# Altium footprint library TPS23751PWPR.PcbLib: 1 footprints
Each footprint in its own frame and in the unit in brackets; x right, y up, seen from the top. Pads: shape width x height; smd on the part's side, far side on the other; paste and mask are expansions set on the pad; w line width, h text height; cw(c..) or ccw(c..) is an arc to the next point about the centre after c.
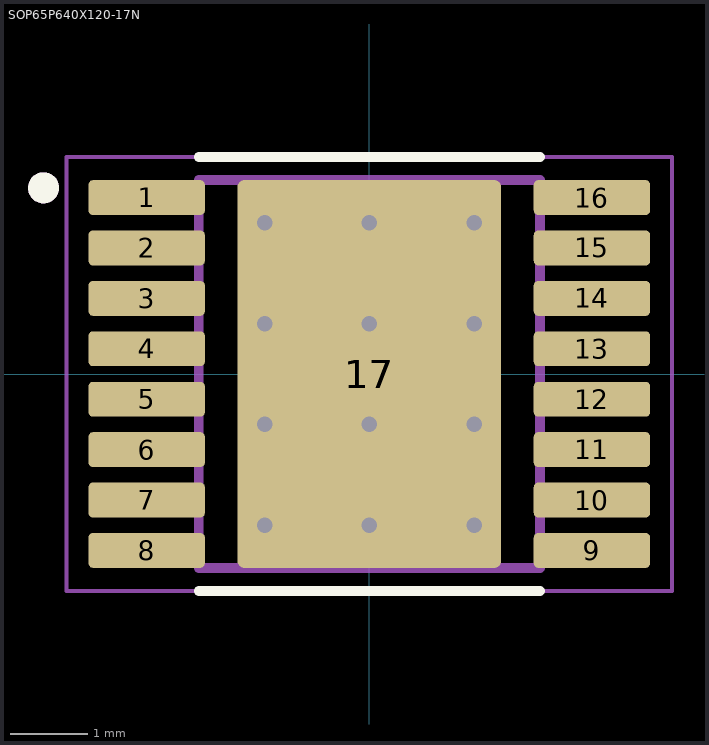
[diagram p0: the footprint, top view; thin cyan lines are the x and y axes]

## SOP65P640X120-17N [mm]
pads (18):
  rrect25% 1.5x0.45 smd mask+0.05: 1(-2.87,2.275) 2(-2.87,1.625) 3(-2.87,0.975) 4(-2.87,0.325) 5(-2.87,-0.325) 6(-2.87,-0.975) 7(-2.87,-1.625) 8(-2.87,-2.275) 9(2.87,-2.275) 10(2.87,-1.625) 11(2.87,-0.975) 12(2.87,-0.325) 13(2.87,0.325) 14(2.87,0.975) 15(2.87,1.625) 16(2.87,2.275)
  rrect5% 3.4x5 smd mask+0.102: 17(0,0)
  rrect5% 2.46x3.55 on Top Solder: 17(0,0)
via -1.35,1.95 diameter 0.3 hole 0.2
via 1.35,1.95 diameter 0.3 hole 0.2
via 0,0.65 diameter 0.3 hole 0.2
via 0,-1.95 diameter 0.3 hole 0.2
via 0,-0.65 diameter 0.3 hole 0.2
via 0,1.95 diameter 0.3 hole 0.2
via 1.35,0.65 diameter 0.3 hole 0.2
via 1.35,-0.65 diameter 0.3 hole 0.2
via 1.35,-1.95 diameter 0.3 hole 0.2
via -1.35,0.65 diameter 0.3 hole 0.2
via -1.35,-0.65 diameter 0.3 hole 0.2
via -1.35,-1.95 diameter 0.3 hole 0.2
Top Overlay:
  circle w0.2: c-4.2,2.4 r0.1
  lines w0.127: -2.2,-2.8 2.2,-2.8 ; -2.2,2.8 2.2,2.8
Mechanical 13:
  circle w0.2: c-4.2,2.4 r0.1
  lines w0.127: -2.2,-2.5 -2.2,2.5 2.2,2.5 2.2,-2.5 -2.2,-2.5
Mechanical 15:
  lines w0.05: -3.905,-2.8 -3.905,2.8 3.905,2.8 3.905,-2.8 -3.905,-2.8
3D body "step_temp.STEP": height 1.2, standoff 0, extent -3.2,-2.5 3.2,2.5